# Altium footprint library CSAB1030A SERIES.PcbLib: 1 footprints
Each footprint in its own frame and in the unit in brackets; x right, y up, seen from the top. Pads: shape width x height; smd on the part's side, far side on the other; paste and mask are expansions set on the pad; w line width, h text height; cw(c..) or ccw(c..) is an arc to the next point about the centre after c.
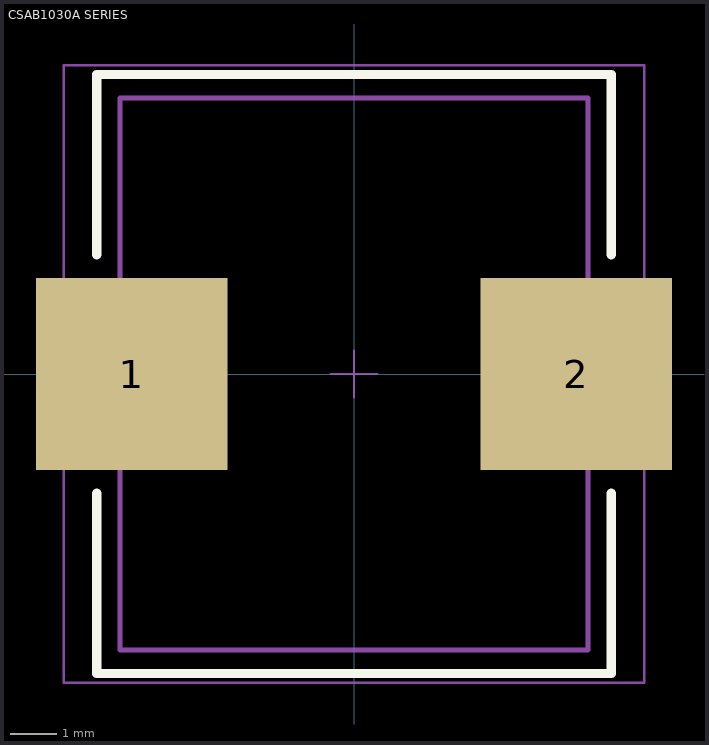
[diagram p0: the footprint, top view; thin cyan lines are the x and y axes]

## CSAB1030A SERIES [mm] "SMT High Current Flat Wire Inductor, 2-Leads, body 10x11.8mm"
height 4
pads (2):
  rect 4.1x4.1 smd: 1(-4.75,0) 2(4.75,0)
Top Overlay:
  lines w0.2: -5.5,-2.55 -5.5,-6.4 5.5,-6.4 5.5,-2.55 ; -5.5,2.55 -5.5,6.4 5.5,6.4 5.5,2.55
Mechanical 13:
  lines w0.1: -5,-5.9 5,-5.9 5,5.9 -5,5.9 -5,-5.9
Mechanical 15:
  lines w0.05: -0.5,0 0.5,0 ; 0,-0.5 0,0.5 ; -6.2,-6.6 -6.2,6.6 6.2,6.6 6.2,-6.6 -6.2,-6.6
3D body "7443040xx.stp": height 3.82, standoff 0.02, extent -5.75,-5.65 5.75,5.65